# Altium schematic symbol library Schlib1.SchLib: 18 symbols
Pins are listed as number, name and electrical type; pins without a type are passive.

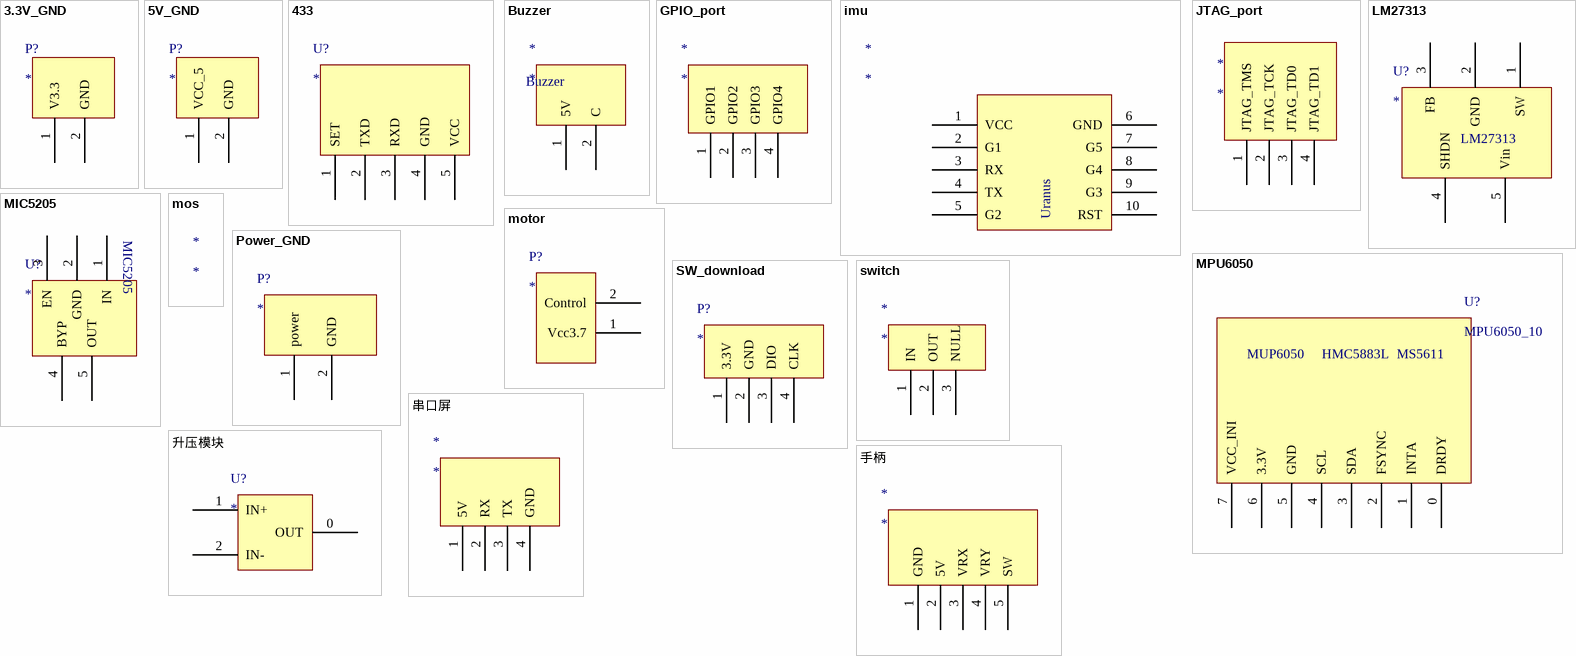
[diagram p0: symbols 3.3V_GND to 手柄]

## 3.3V_GND
designator P?
footprint 5V_GND
footprint 3.3V_GND
pins: 1 V3.3, 2 GND

## 5V_GND
designator P?
footprint 5V_GND
pins: 1 VCC_5, 2 GND

## 433
designator U?
通讯模块
footprint 433
pins: 1 SET, 2 TXD, 3 RXD, 4 GND, 5 VCC

## Buzzer
designator *
footprint Buzzer
pins: 1 5V, 2 C

## GPIO_port
designator *
pins: 1 GPIO1, 2 GPIO2, 3 GPIO3, 4 GPIO4

## imu
designator *
footprint HI219M
pins: 1 VCC, 2 G1, 3 RX, 4 TX, 5 G2, 6 GND, 7 G5, 8 G4, 9 G3, 10 RST
text: Uranus

## JTAG_port
designator *
pins: 1 JTAG_TMS, 2 JTAG_TCK, 3 JTAG_TD0, 4 JTAG_TD1

## LM27313
designator U?
3.7V升压到5v
footprint SOT-23_5-001
pins: 1 SW, 2 GND, 3 FB, 4 SHDN, 5 Vin

## MIC5205
designator U?
5V降压到3.3V
footprint SOT-23_5-001
pins: 1 IN, 2 GND, 3 EN, 4 BYP, 5 OUT

## mos
designator *

## motor
designator P?
电机连接口
footprint Motor
pins: 1 Vcc3.7, 2 Control

## MPU6050
designator U?, comment MPU6050_10
MPU6050_10轴
footprint MPU6050_10 (mpu6050_10轴传感器)
pins: 0 DRDY, 1 INTA, 2 FSYNC, 3 SDA, 4 SCL, 5 GND, 6 3.3V, 7 VCC_INI
text: MUP6050; HMC5883L; MS5611

## Power_GND
designator P?
footprint Power_GND
pins: 1 power, 2 GND

## SW_download
designator P?
footprint SW_download
pins: 1 3.3V, 2 GND, 3 DIO, 4 CLK

## switch
designator *
footprint SWITCH
pins: 1 IN, 2 OUT, 3 NULL

## 串口屏
designator *
pins: 1 5V, 2 RX, 3 TX, 4 GND

## 升压模块
designator U?
升压到5V
footprint 升压模块 (升到5V)
pins: 0 OUT, 1 IN+, 2 IN-

## 手柄
designator *
pins: 1 GND, 2 5V, 3 VRX, 4 VRY, 5 SW